# EAGLE library part LEDDRIVER (library mrone)
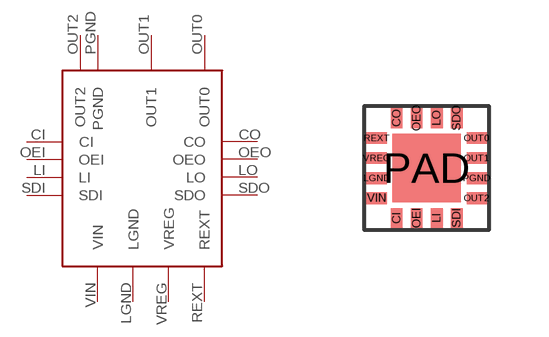
[diagram p2: symbol with the pads of QFN-16; footprint QFN-16]

Designator prefix -

## LEDDRIVER  [QFN-16]
CI  CI
CO  CO
LGND  LGND
LI  LI
LO  LO
OEI  OEI
OEO  OEO
OUT0  OUT0
OUT1  OUT1
OUT2  OUT2
PGND  PGND
REXT  REXT
SDI  SDI
SDO  SDO
VIN  VIN
VREG  VREG

## Footprint QFN-16 (pad centres in mm)
smd 0.3 x 0.5: CI -0.75,-1.25; CO -0.75,1.25; LI 0.25,-1.25; LO 0.25,1.25; OEI -0.25,-1.25; OEO -0.25,1.25; SDI 0.75,-1.25; SDO 0.75,1.25
smd 0.5 x 0.3: LGND -1.25,-0.25; OUT0 1.25,0.75; OUT1 1.25,0.25; OUT2 1.25,-0.75; PGND 1.25,-0.25; REXT -1.25,0.75; VIN -1.25,-0.75; VREG -1.25,0.25
smd 1.7 x 1.7: PAD 0,0